# Altium footprint library Multi_Effect_Interface_lib.PcbLib: 29 footprints (part 2 of 2)
Each footprint in its own frame and in the unit in brackets; x right, y up, seen from the top. Pads: shape width x height; smd on the part's side, far side on the other; paste and mask are expansions set on the pad; w line width, h text height; cw(c..) or ccw(c..) is an arc to the next point about the centre after c.
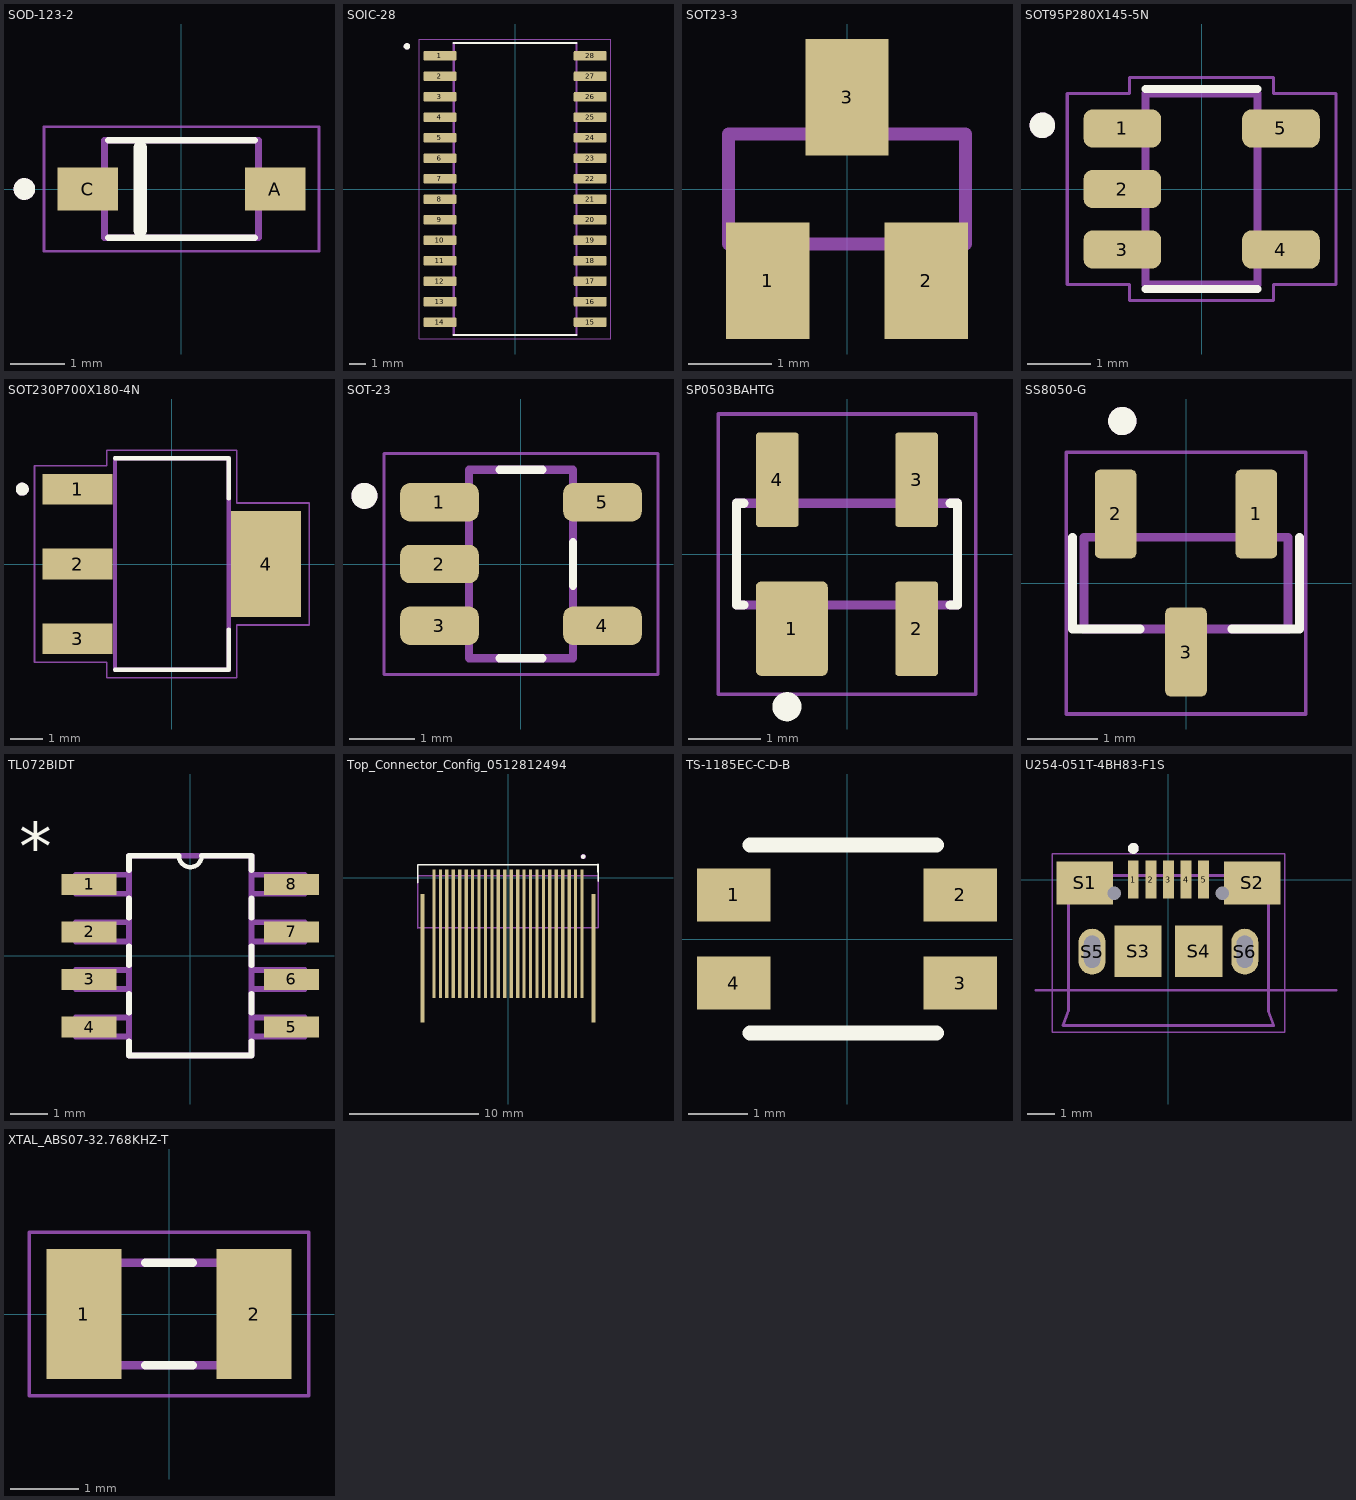
[diagram p1: the footprints below, top view; thin cyan lines are the x and y axes]

## SOD-123-2 [mm]
pads (2):
  rect 1.12x0.8 smd: A(1.73,0) C(-1.73,0)
Top Overlay:
  circle w0.2: c-2.9,0 r0.1
  lines w0.127: -1.35,-0.9 1.35,-0.9 ; -1.35,0.9 1.35,0.9
  lines w0.254: -0.762,-0.762 -0.762,0.762
Mechanical 13:
  circle w0.2: c-2.9,0 r0.1
  lines w0.127: -1.42,-0.9 -1.42,0.9 1.42,0.9 1.42,-0.9 -1.42,-0.9
Mechanical 15:
  lines w0.05: -2.54,-1.15 2.54,-1.15 2.54,1.15 -2.54,1.15 -2.54,-1.15
3D body "MBR130T1G.STEP": height 1.35, standoff 0, extent -1.841,-0.8 1.841,0.8

## SOIC-28 [mm]
pads (28):
  rrect25% 2.05x0.59 smd: 1(-4.655,8.255) 2(-4.655,6.985) 3(-4.655,5.715) 4(-4.655,4.445) 5(-4.655,3.175) 6(-4.655,1.905) 7(-4.655,0.635) 8(-4.655,-0.635) 9(-4.655,-1.905) 10(-4.655,-3.175) 11(-4.655,-4.445) 12(-4.655,-5.715) 13(-4.655,-6.985) 14(-4.655,-8.255) 15(4.655,-8.255) 16(4.655,-6.985) 17(4.655,-5.715) 18(4.655,-4.445) 19(4.655,-3.175) 20(4.655,-1.905) 21(4.655,-0.635) 22(4.655,0.635) 23(4.655,1.905) 24(4.655,3.175) 25(4.655,4.445) 26(4.655,5.715) 27(4.655,6.985) 28(4.655,8.255)
Top Overlay:
  circle w0.2: c-6.705,8.845 r0.1
  lines w0.127: -3.8,-9.05 3.8,-9.05 ; -3.8,9.05 3.8,9.05
Mechanical 13:
  circle w0.2: c-6.705,8.845 r0.1
  lines w0.127: -3.8,-9.05 -3.8,9.05 3.8,9.05 3.8,-9.05 -3.8,-9.05
Mechanical 15:
  lines w0.05: -5.93,-9.3 -5.93,9.3 5.93,9.3 5.93,-9.3 -5.93,-9.3
3D body "step_temp.STEP": height 2.65, standoff 0, extent -5.162,-8.95 5.162,8.95

## SOT23-3 [mm]
pads (3):
  rect 1x1.4 smd: 1(-0.95,-1.1) 2(0.95,-1.1) 3(0,1.1)
Mechanical 13:
  region: -0.711,-1.297 -1.17,-1.297 -1.17,-0.711 -0.711,-0.711
  region: 1.168,-1.297 0.712,-1.297 0.712,-0.711 1.168,-0.711
  region: 0.229,0.712 -0.229,0.712 -0.229,1.295 0.229,1.295
  lines w0.152: -1.422,-0.66 -1.422,0.66 1.422,0.66 1.422,-0.66 -1.422,-0.66
3D body "SOT23-3.step": height 1.1, standoff 0, extent -1.5,-1.25 1.5,1.25

## SOT95P280X145-5N [mm]
pads (5):
  rrect50% 1.22x0.6 smd: 1(-1.245,0.95) 2(-1.245,0) 3(-1.245,-0.95) 4(1.245,-0.95) 5(1.245,0.95)
Top Overlay:
  circle w0.2: c-2.5,1 r0.1
  lines w0.127: -0.88,-1.57 0.88,-1.57 ; -0.88,1.57 0.88,1.57
Mechanical 13:
  circle w0.2: c-2.5,1 r0.1
  lines w0.127: -0.88,-1.5 -0.88,1.5 0.88,1.5 0.88,-1.5 -0.88,-1.5
Mechanical 15:
  lines w0.05: -2.11,-1.5 -1.13,-1.5 -1.13,-1.75 1.13,-1.75 1.13,-1.5 2.11,-1.5 2.11,1.5 1.13,1.5 1.13,1.75 -1.13,1.75 -1.13,1.5 -2.11,1.5 -2.11,-1.5
3D body "OT.STEP": height 1.45, standoff 0, extent -1.35,-1.45 1.35,1.45

## SOT230P700X180-4N [mm]
pads (4):
  rect 2.15x0.95 smd: 1(-2.9,2.3) 2(-2.9,0) 3(-2.9,-2.3)
  rect 2.15x3.25 smd: 4(2.9,0)
Top Overlay:
  circle w0.2: c-4.6,2.3 r0.1
  lines w0.127: -1.75,-3.25 1.75,-3.25 1.75,-2.01 ; -1.75,3.25 1.75,3.25 1.75,2.01
Mechanical 13:
  circle w0.2: c-4.6,2.3 r0.1
  lines w0.127: -1.75,-3.25 -1.75,3.25 1.75,3.25 1.75,-3.25 -1.75,-3.25
Mechanical 15:
  lines w0.05: -4.225,-3.025 -4.225,3.025 -2,3.025 -2,3.5 2,3.5 2,1.875 4.225,1.875 4.225,-1.875 2,-1.875 2,-3.5 -2,-3.5 -2,-3.025 -4.225,-3.025
3D body "step_temp.STEP": height 1.8, standoff 0, extent -3.5,-3.25 3.5,3.25

## SOT-23 [mm]
pads (5):
  rrect50% 1.21x0.59 smd: 1(-1.255,0.95) 2(-1.255,0) 3(-1.255,-0.95) 4(1.255,-0.95) 5(1.255,0.95)
Top Overlay:
  circle w0.2: c-2.41,1.05 r0.1
  lines w0.127: -0.33,-1.45 0.33,-1.45 ; -0.33,1.45 0.33,1.45 ; 0.8,-0.335 0.8,0.335
Mechanical 13:
  circle w0.2: c-2.41,1.05 r0.1
  lines w0.127: -0.8,-1.45 0.8,-1.45 0.8,1.45 -0.8,1.45 -0.8,-1.45
Mechanical 15:
  lines w0.05: -2.11,-1.7 -2.11,1.7 2.11,1.7 2.11,-1.7 -2.11,-1.7
3D body "step_temp.STEP": height 1.45, standoff 0, extent -1.4,-1.45 1.4,1.45

## SP0503BAHTG [mm]
pads (4):
  rrect15% 0.99x1.3 smd: 1(-0.76,-1.025)
  rrect15% 0.59x1.3 smd: 2(0.96,-1.025) 3(0.96,1.025) 4(-0.96,1.025)
Top Overlay:
  circle w0.2: c-0.827,-2.1 r0.1
  lines w0.127: -1.42,-0.7 -1.52,-0.7 -1.52,0.7 -1.42,0.7 ; 1.42,-0.7 1.52,-0.7 1.52,0.7 1.42,0.7
Mechanical 13:
  lines w0.127: -1.52,-0.7 1.52,-0.7 1.52,0.7 -1.52,0.7 -1.52,-0.7
Mechanical 15:
  lines w0.05: -1.77,-1.93 1.77,-1.93 1.77,1.93 -1.77,1.93 -1.77,-1.93
3D body "SP0503BAHTG--3DModel-STEP-56544.STEP": height 1.22, standoff 0, extent -1.46,-1.185 1.46,1.185

## SS8050-G [mm]
pads (3):
  rrect25% 0.59x1.26 smd: 1(1,0.98) 2(-1,0.98) 3(0,-0.98)
Top Overlay:
  circle w0.2: c-0.905,2.3 r0.1
  lines w0.127: -1.61,0.65 -1.61,-0.65 -0.65,-0.65 ; 0.65,-0.65 1.61,-0.65 1.61,0.65
Mechanical 13:
  circle w0.2: c-0.905,2.3 r0.1
  lines w0.127: -1.45,-0.65 -1.45,0.65 1.45,0.65 1.45,-0.65 -1.45,-0.65
Mechanical 15:
  lines w0.05: -1.7,-1.86 -1.7,1.86 1.7,1.86 1.7,-1.86 -1.7,-1.86
3D body "2STR1215.STEP": height 1.1, standoff 0, extent -1.45,-1.15 1.45,1.15

## TL072BIDT [mil]
pads (8):
  rect 58x22 smd: 1(-106.3,75) 2(-106.3,25) 3(-106.3,-25) 4(-106.3,-75) 5(106.3,-75) 6(106.3,-25) 7(106.3,25) 8(106.3,75)
Top Overlay:
  lines w4.72: -12,105 ccw(c0,105) 12,105
  lines w6: -64.31,-90 -64.31,-105 64.31,-105 64.31,-90 ; -64.31,-60 -64.31,-40 ; -64.31,-10 -64.31,10 ; -64.31,40 -64.31,60 ; -64.31,90 -64.31,105 -12,105 ; 12,105 64.31,105 64.31,90 ; 64.31,-60 64.31,-40 ; 64.31,-10 64.31,10 ; 64.31,40 64.31,60
  text "*" at -180,90 h50.08
Mechanical 13:
  lines w0: -12,105 ccw(c0,105) 12,105
  lines w5.98: -64.31,-105 64.31,-105 ; -64.31,105 -12,105 ; 12,105 64.31,105
  lines w6: -64.31,-105 -64.31,105 ; -12,105 12,105 ; 64.31,-105 64.31,105 ; -120.31,-85 -120.31,-65 -64.31,-65 -64.31,-85 -120.31,-85 ; -120.31,-35 -120.31,-15 -64.31,-15 -64.31,-35 -120.31,-35 ; -120.31,15 -120.31,35 -64.31,35 -64.31,15 -120.31,15 ; -120.31,65 -120.31,85 -64.31,85 -64.31,65 -120.31,65 ; 64.31,-85 120.31,-85 120.31,-65 64.31,-65 64.31,-85 ; 64.31,-35 120.31,-35 120.31,-15 64.31,-15 64.31,-35 ; 64.31,15 120.31,15 120.31,35 64.31,35 64.31,15 ; 64.31,65 120.31,65 120.31,85 64.31,85 64.31,65
  text "*" at -180,90 h50.03
3D body "SN.STEP": height 68.9, standoff 0, extent -118.11,-96.46 118.11,96.46

## Top_Connector_Config_0512812494 [mm] "24 Position FFC, FPC Connector Contacts, Top and Bottom 0.020\" (0.50mm) Surface Mount, Right Angle"
pads (26):
  rect 0.25x10 smd: 1(5.75,-4.35) 2(5.25,-4.35) 3(4.75,-4.35) 4(4.25,-4.35) 5(3.75,-4.35) 6(3.25,-4.35) 7(2.75,-4.35) 8(2.25,-4.35) 9(1.75,-4.35) 10(1.25,-4.35) 11(0.75,-4.35) 12(0.25,-4.35) 13(-0.25,-4.35) 14(-0.75,-4.35) 15(-1.25,-4.35) 16(-1.75,-4.35) 17(-2.25,-4.35) 18(-2.75,-4.35) 19(-3.25,-4.35) 20(-3.75,-4.35) 21(-4.25,-4.35) 22(-4.75,-4.35) 23(-5.25,-4.35) 24(-5.75,-4.35)
  rect 0.3x10 smd: S1(-6.65,-6.25) S2(6.65,-6.25)
Top Overlay:
  circle w0.2: c5.842,1.651 r0.069
  lines w0.127: -7,-0.381 -7.005,1.014 6.995,1.041 7,-0.254
Mechanical 13:
  circle w0.2: c5.842,1.651 r0.1
  lines w0.127: -7,-3.894 -3.5,-3.887 3.5,-3.874 7,-3.867 ; -7,-3.857 -7,0.143 ; -7,0.17 7,0.17 ; 7,-3.857 7,0.143
3D body "512812494.stp": height 1.2, standoff 0, extent -7.05,-3.95 7.05,0.1

## TS-1185EC-C-D-B [mm]
pads (4):
  rect 1.25x0.9 smd: 1(-1.925,0.75) 2(1.925,0.75) 3(1.925,-0.75) 4(-1.925,-0.75)
Top Overlay:
  lines w0.254: -1.651,-1.6 1.524,-1.6 ; -1.651,1.6 1.524,1.6
3D body "ts-1185ec-c-d-b.stp": height 2, standoff 0, extent -2.325,-1.5 2.325,1.5

## U254-051T-4BH83-F1S [mm]
pads (13):
  rect 0.4x1.4 smd: 1(-1.3,0) 2(-0.65,0) 3(0,0) 4(0.65,0) 5(1.3,0)
  rect 2.1x1.6 smd: S1(-3.1,-0.125) S2(3.1,-0.125)
  rect 1.75x1.9 smd: S3(-1.125,-2.65) S4(1.125,-2.65)
  oval 1x1.7 hole 0.6 slot 1.2 at 90 deg: S5(-2.825,-2.67) S6(2.825,-2.67)
  round 0 hole 0.5: S5(-2,-0.5) S5(2,-0.5)
Top Overlay:
  circle w0.2: c-1.3,1.15 r0.1
Mechanical 13:
  circle w0.2: c-1.3,1.15 r0.1
  lines w0.1: -4.9,-4.1 6.2,-4.1 ; -3.9,-5.4 3.9,-5.4 3.7,-4.86 3.7,0.15 -3.7,0.15 -3.7,-4.86 -3.9,-5.4
  text "PCB EDGE" at 4.416,-4.055 h0.41
Mechanical 15:
  lines w0.05: -4.3,-5.65 4.3,-5.65 4.3,0.95 -4.3,0.95 -4.3,-5.65
3D body "u254-051t-4bh83-f1s.stp": height 2.4, standoff -0.65, extent -3.707,-4.8 3.707,0.65

## XTAL_ABS07-32.768KHZ-T [mm]
pads (2):
  rect 1.1x1.9 smd: 1(-1.25,0) 2(1.25,0)
Top Overlay:
  lines w0.127: -0.35,-0.75 0.35,-0.75 ; -0.35,0.75 0.35,0.75
Mechanical 13:
  lines w0.127: -1.6,-0.75 1.6,-0.75 1.6,0.75 -1.6,0.75 -1.6,-0.75
Mechanical 15:
  lines w0.05: -2.05,-1.2 2.05,-1.2 2.05,1.2 -2.05,1.2 -2.05,-1.2
3D body "ABS07-32.768KHZ-T--3DModel-STEP-400430.STEP": height 0.89, standoff 0, extent -1.6,-0.749 1.6,0.749